# EAGLE library part NE558 (library st-microelectronics +NE558)
NE558 Quad Timer
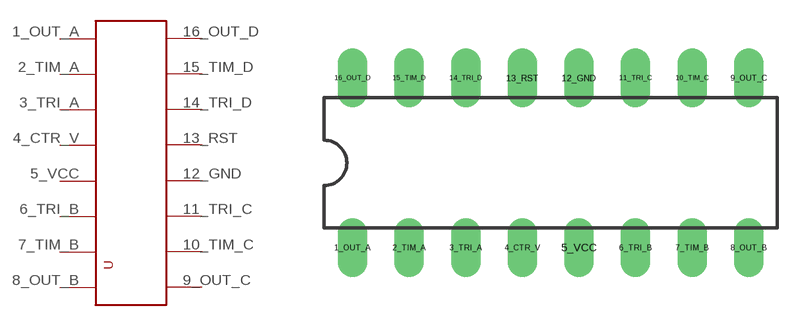
[diagram p46: symbol with the pads of NE558; footprint NE558]

Designator prefix -

## NE558  [NE558]
1_OUT_A  P1_OUT_A  out
2_TIM_A  P2_T_A  in
3_TRI_A  P3_TRI_A  out
4_CTR_V  P4_CTL_VCC  pwr
5_VCC  P5_VCC
6_TRI_B  P6_TRI_B
7_TIM_B  P7_T_B
8_OUT_B  P8_OUT_B
9_OUT_C  P9_OUT_C
10_TIM_C  P10_T_C
11_TRI_C  P11_TRI_C
12_GND  P12_GND
13_RST  P13_RST
14_TRI_D  P14_TRI_D
15_TIM_D  P15_T_D
16_OUT_D  P16_OUT_D

## Footprint NE558 (pad centres in mm)
drill 0.813 long: 1_OUT_A -8.89,-3.81; 2_TIM_A -6.35,-3.81; 3_TRI_A -3.81,-3.81; 4_CTR_V -1.27,-3.81; 5_VCC 1.27,-3.81; 6_TRI_B 3.81,-3.81; 7_TIM_B 6.35,-3.81; 8_OUT_B 8.89,-3.81; 9_OUT_C 8.89,3.81; 10_TIM_C 6.35,3.81; 11_TRI_C 3.81,3.81; 12_GND 1.27,3.81; 13_RST -1.27,3.81; 14_TRI_D -3.81,3.81; 15_TIM_D -6.35,3.81; 16_OUT_D -8.89,3.81